# Altium footprint library PCB - CONNECTOR - AMPHENOL RJHSE-5380-02.PCBLIB: 1 footprints
Each footprint in its own frame and in the unit in brackets; x right, y up, seen from the top. Pads: shape width x height; smd on the part's side, far side on the other; paste and mask are expansions set on the pad; w line width, h text height; cw(c..) or ccw(c..) is an arc to the next point about the centre after c.
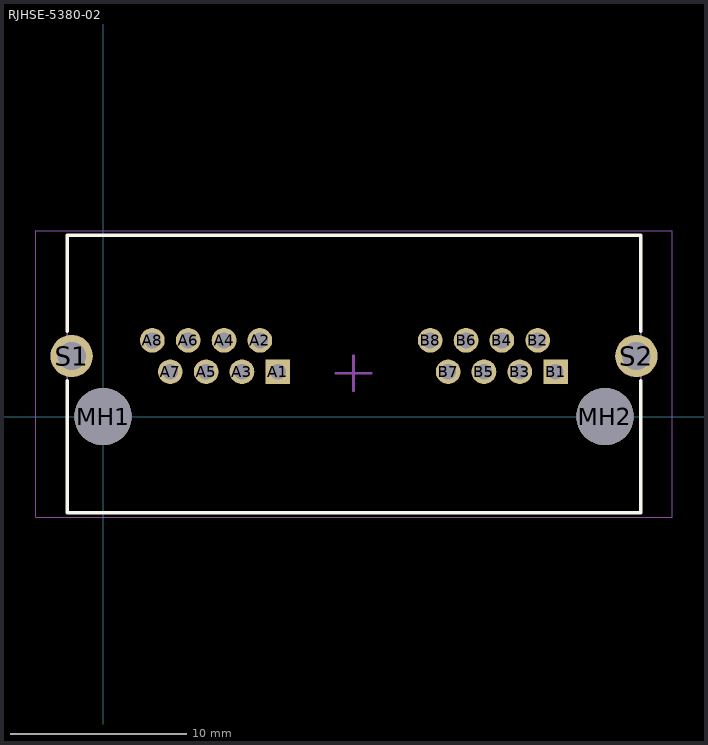
[diagram p0: the footprint, top view; thin cyan lines are the x and y axes]

## RJHSE-5380-02 [mm] "Modular Jack Horizontal Shielded Dual Port 8P8C Tab Up"
height 13.75
pads (20):
  rect 1.4x1.4 hole 0.9: A1(9.906,2.54) B1(25.654,2.54)
  round 1.4 hole 0.9: A2(8.89,4.318) A3(7.874,2.54) A4(6.858,4.318) A5(5.842,2.54) A6(4.826,4.318) A7(3.81,2.54) A8(2.794,4.318) B2(24.638,4.318) B3(23.622,2.54) B4(22.606,4.318) B5(21.59,2.54) B6(20.574,4.318) B7(19.558,2.54) B8(18.542,4.318)
  round 3.25 hole 3.25 unplated: MH1(0,0) MH2(28.448,0)
  round 2.4 hole 1.6: S1(-1.778,3.429) S2(30.226,3.429)
Top Overlay:
  lines w0.203: -2.032,2.032 -2.032,-5.461 30.48,-5.461 30.48,2.032 ; -2.032,4.826 -2.032,10.287 30.48,10.287 30.48,4.826
Top Assembly:
  lines w0.1: -2.032,-5.461 30.48,-5.461 30.48,10.287 -2.032,10.287 -2.032,-5.461
Top Courtyard:
  lines w0.05: -3.81,-5.715 -3.81,10.541 32.258,10.541 32.258,-5.715 -3.81,-5.715
Top Designator:
  text ".Designator" at 9.2,6.6 h1.02
Top Component Center:
  lines w0.15: 13.196,2.455 15.196,2.455 ; 14.196,1.455 14.196,3.455
3D body "RJHSE-5380-02-REVT1.step": height 15.06, standoff -3.78, extent -3.503,-5.41 31.951,10.287